# Altium schematic symbol library prism_mainboard.SchLib: 12 symbols
Pins are listed as number, name and electrical type; pins without a type are passive.

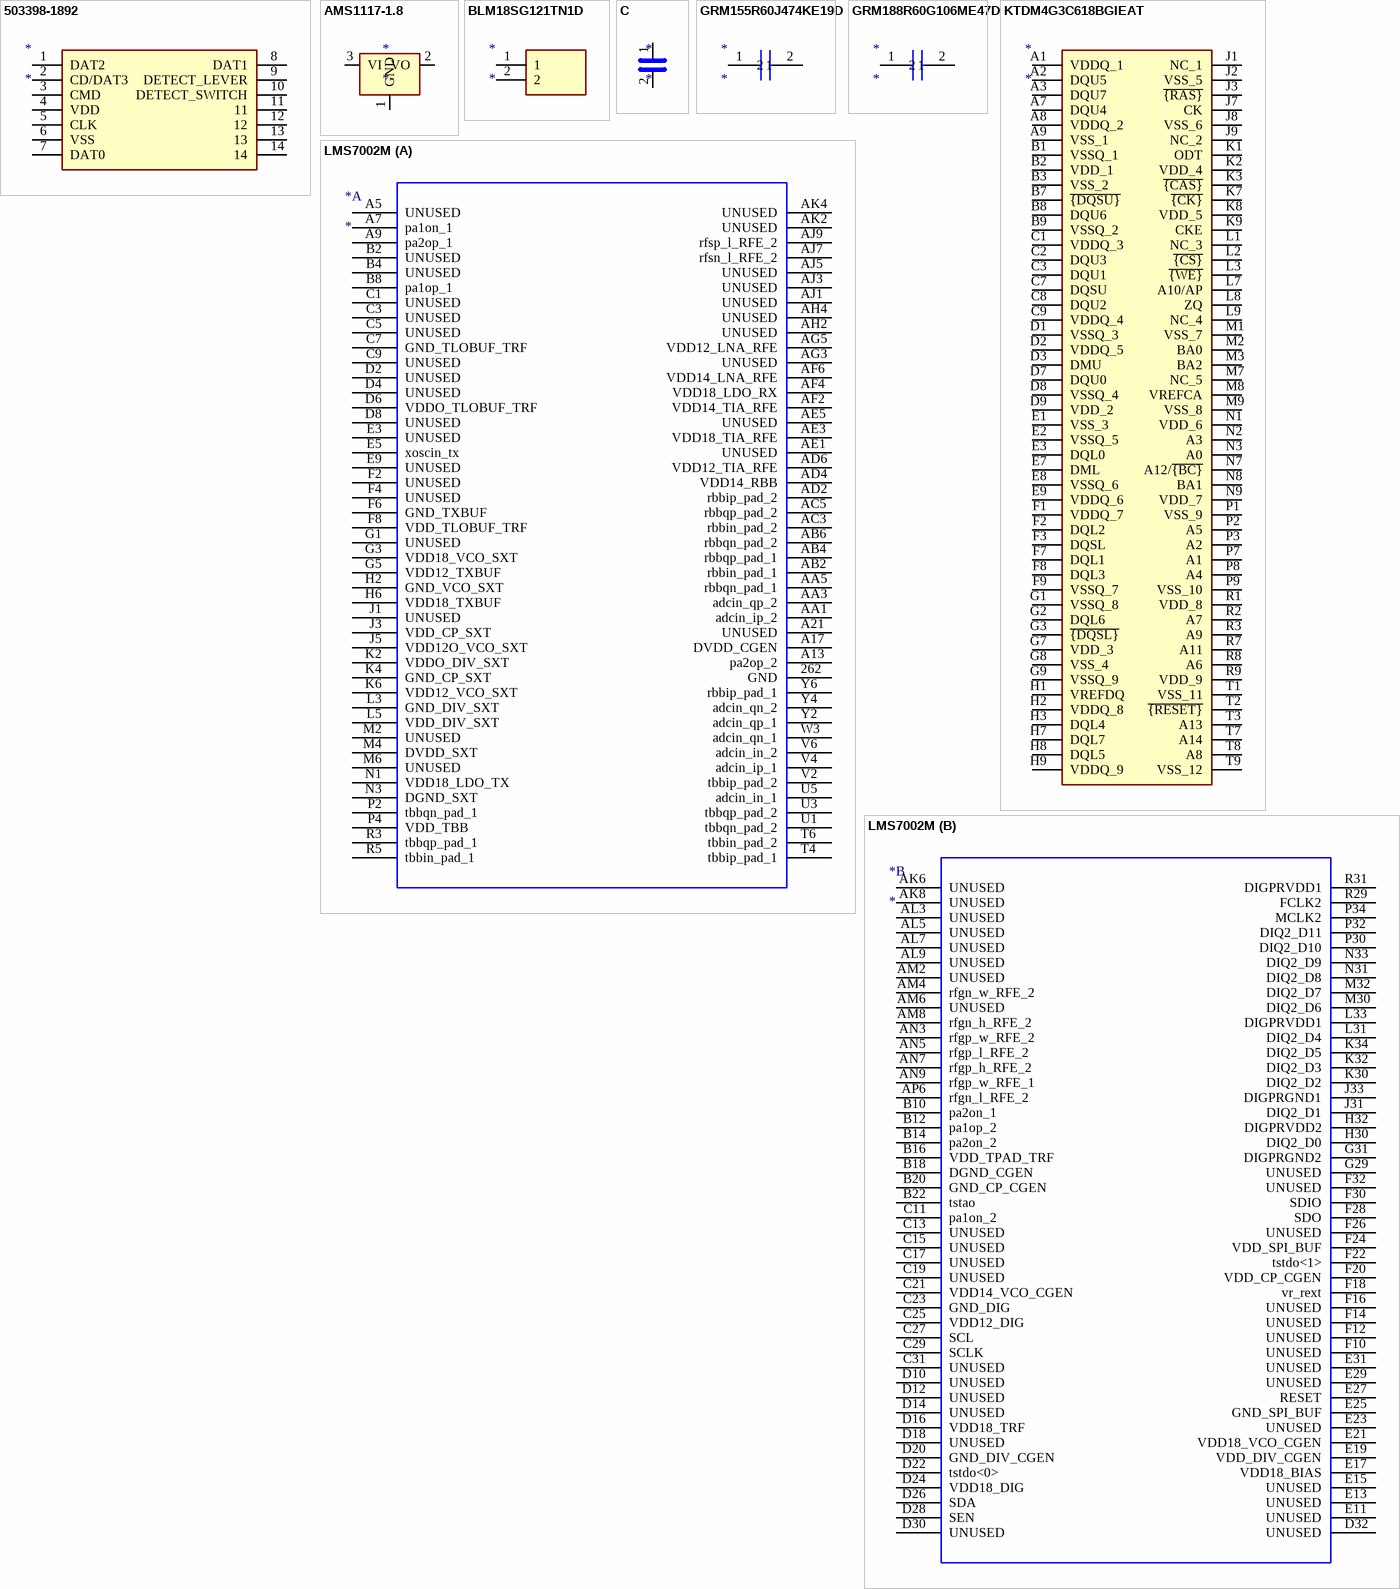
[diagram p0: symbols 503398-1892 to LMS7002M]

## 503398-1892
designator *
pins: 1 DAT2, 2 CD/DAT3, 3 CMD, 4 VDD, 5 CLK, 6 VSS, 7 DAT0, 8 DAT1, 9 DETECT_LEVER, 10 DETECT_SWITCH, 11, 12, 13, 14

## AMS1117-1.8
designator *
pins: 1 GND, 2 VO, 3 VI

## BLM18SG121TN1D
designator *
pins: 1, 2

## C
designator *
pins: 1, 2

## GRM155R60J474KE19D
designator *
pins: 1, 2

## GRM188R60G106ME47D
designator *
pins: 1, 2

## KTDM4G3C618BGIEAT
designator *
pins: A1 VDDQ_1, A2 DQU5, A3 DQU7, A7 DQU4, A8 VDDQ_2, A9 VSS_1, B1 VSSQ_1, B2 VDD_1, B3 VSS_2, B7 ~{{DQSU}}, B8 DQU6, B9 VSSQ_2, C1 VDDQ_3, C2 DQU3, C3 DQU1, C7 DQSU, C8 DQU2, C9 VDDQ_4, D1 VSSQ_3, D2 VDDQ_5, D3 DMU, D7 DQU0, D8 VSSQ_4, D9 VDD_2, E1 VSS_3, E2 VSSQ_5, E3 DQL0, E7 DML, E8 VSSQ_6, E9 VDDQ_6, F1 VDDQ_7, F2 DQL2, F3 DQSL, F7 DQL1, F8 DQL3, F9 VSSQ_7, G1 VSSQ_8, G2 DQL6, G3 ~{{DQSL}}, G7 VDD_3, G8 VSS_4, G9 VSSQ_9, H1 VREFDQ, H2 VDDQ_8, H3 DQL4, H7 DQL7, H8 DQL5, H9 VDDQ_9, J1 NC_1, J2 VSS_5, J3 ~{{RAS}}, J7 CK, J8 VSS_6, J9 NC_2, K1 ODT, K2 VDD_4, K3 ~{{CAS}}, K7 ~{{CK}}, K8 VDD_5, K9 CKE, L1 NC_3, L2 ~{{CS}}, L3 ~{{WE}}, L7 A10/AP, L8 ZQ, L9 NC_4, M1 VSS_7, M2 BA0, M3 BA2, M7 NC_5, M8 VREFCA, M9 VSS_8, N1 VDD_6, N2 A3, N3 A0, N7 A12/~{{BC}}, N8 BA1, N9 VDD_7, P1 VSS_9, P2 A5, P3 A2, P7 A1, P8 A4, P9 VSS_10, R1 VDD_8, R2 A7, R3 A9, R7 A11, R8 A6, R9 VDD_9, T1 VSS_11, T2 ~{{RESET}}, T3 A13, T7 A14, T8 A8, T9 VSS_12

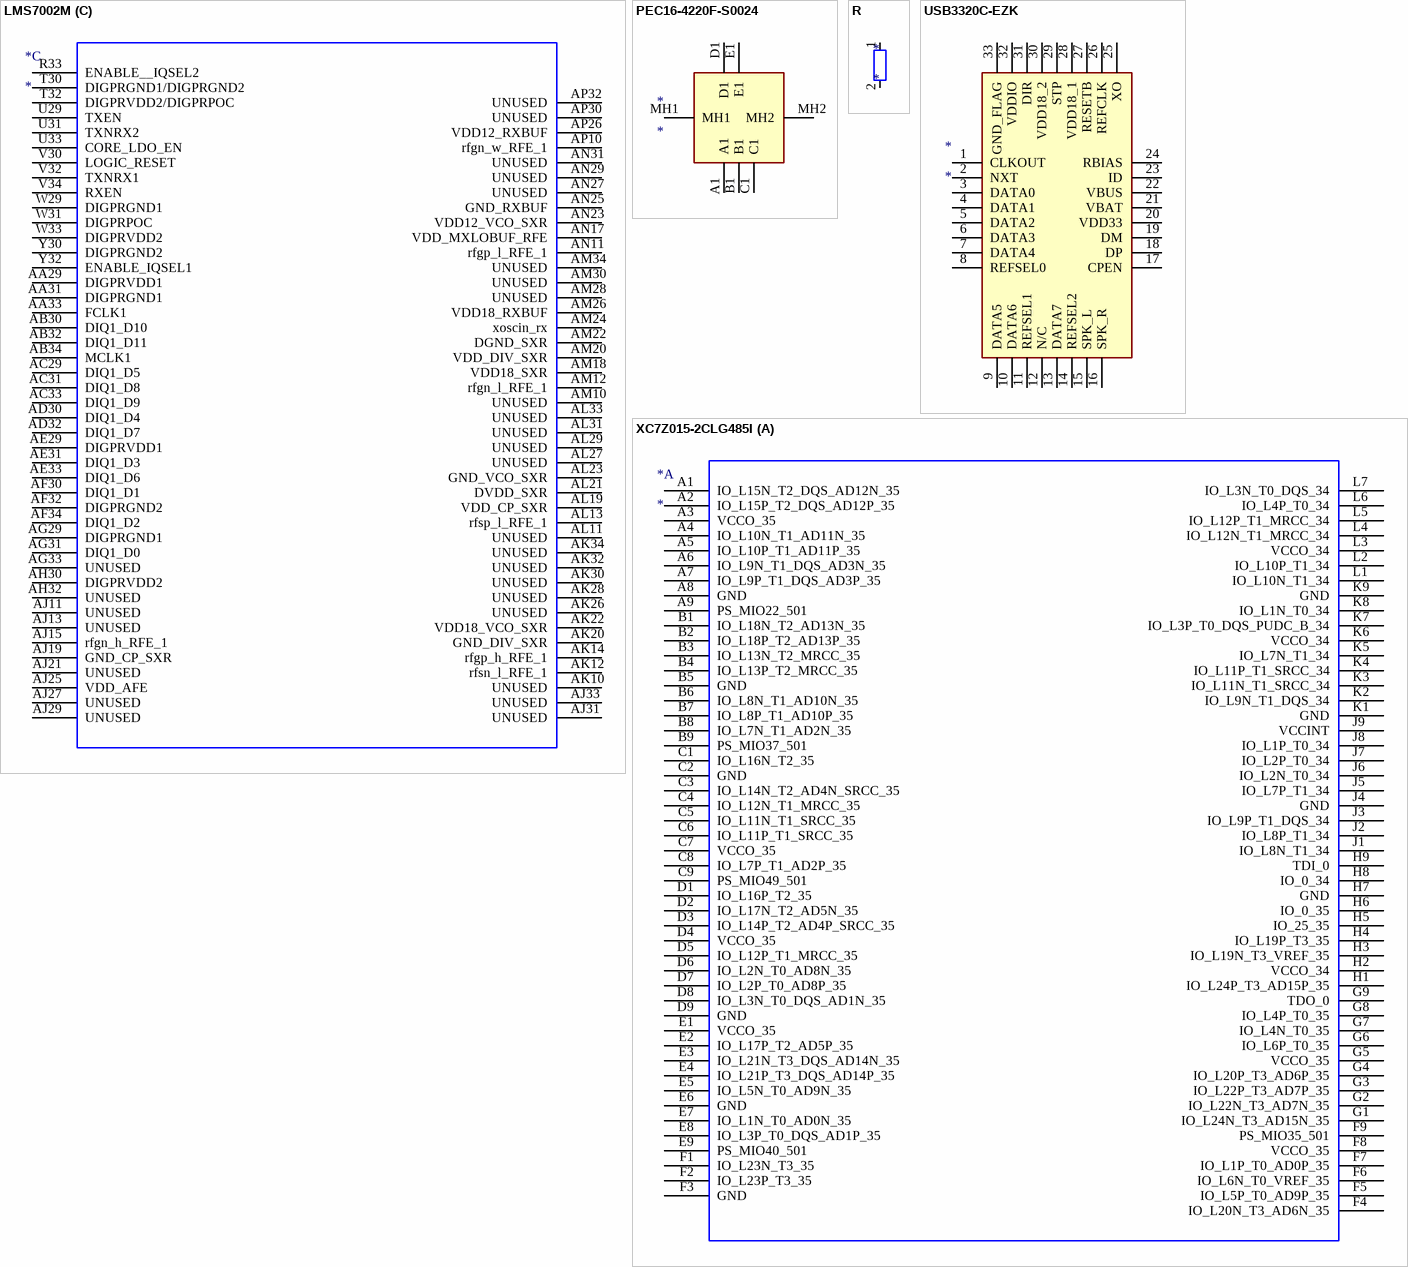
[diagram p1: symbols LMS7002M to XC7Z015-2CLG485I]

## LMS7002M
designator *
part A pins: 262 GND, A5 UNUSED, A7 pa1on_1, A9 pa2op_1, A13 pa2op_2, A17 DVDD_CGEN, A21 UNUSED, AA1 adcin_ip_2, AA3 adcin_qp_2, AA5 rbbqn_pad_1, AB2 rbbin_pad_1, AB4 rbbqp_pad_1, AB6 rbbqn_pad_2, AC3 rbbin_pad_2, AC5 rbbqp_pad_2, AD2 rbbip_pad_2, AD4 VDD14_RBB, AD6 VDD12_TIA_RFE, AE1 UNUSED, AE3 VDD18_TIA_RFE, AE5 UNUSED, AF2 VDD14_TIA_RFE, AF4 VDD18_LDO_RX, AF6 VDD14_LNA_RFE, AG3 UNUSED, AG5 VDD12_LNA_RFE, AH2 UNUSED, AH4 UNUSED, AJ1 UNUSED, AJ3 UNUSED, AJ5 UNUSED, AJ7 rfsn_l_RFE_2, AJ9 rfsp_l_RFE_2, AK2 UNUSED, AK4 UNUSED, B2 UNUSED, B4 UNUSED, B8 pa1op_1, C1 UNUSED, C3 UNUSED, C5 UNUSED, C7 GND_TLOBUF_TRF, C9 UNUSED, D2 UNUSED, D4 UNUSED, D6 VDDO_TLOBUF_TRF, D8 UNUSED, E3 UNUSED, E5 xoscin_tx, E9 UNUSED, F2 UNUSED, F4 UNUSED, F6 GND_TXBUF, F8 VDD_TLOBUF_TRF, G1 UNUSED, G3 VDD18_VCO_SXT, G5 VDD12_TXBUF, H2 GND_VCO_SXT, H6 VDD18_TXBUF, J1 UNUSED, J3 VDD_CP_SXT, J5 VDD12O_VCO_SXT, K2 VDDO_DIV_SXT, K4 GND_CP_SXT, K6 VDD12_VCO_SXT, L3 GND_DIV_SXT, L5 VDD_DIV_SXT, M2 UNUSED, M4 DVDD_SXT, M6 UNUSED, N1 VDD18_LDO_TX, N3 DGND_SXT, P2 tbbqn_pad_1, P4 VDD_TBB, R3 tbbqp_pad_1, R5 tbbin_pad_1, T4 tbbip_pad_1, T6 tbbin_pad_2, U1 tbbqn_pad_2, U3 tbbqp_pad_2, U5 adcin_in_1, V2 tbbip_pad_2, V4 adcin_ip_1, V6 adcin_in_2, W3 adcin_qn_1, Y2 adcin_qp_1, Y4 adcin_qn_2, Y6 rbbip_pad_1
part B pins: AK6 UNUSED, AK8 UNUSED, AL3 UNUSED, AL5 UNUSED, AL7 UNUSED, AL9 UNUSED, AM2 UNUSED, AM4 rfgn_w_RFE_2, AM6 UNUSED, AM8 rfgn_h_RFE_2, AN3 rfgp_w_RFE_2, AN5 rfgp_l_RFE_2, AN7 rfgp_h_RFE_2, AN9 rfgp_w_RFE_1, AP6 rfgn_l_RFE_2, B10 pa2on_1, B12 pa1op_2, B14 pa2on_2, B16 VDD_TPAD_TRF, B18 DGND_CGEN, B20 GND_CP_CGEN, B22 tstao, C11 pa1on_2, C13 UNUSED, C15 UNUSED, C17 UNUSED, C19 UNUSED, C21 VDD14_VCO_CGEN, C23 GND_DIG, C25 VDD12_DIG, C27 SCL, C29 SCLK, C31 UNUSED, D10 UNUSED, D12 UNUSED, D14 UNUSED, D16 VDD18_TRF, D18 UNUSED, D20 GND_DIV_CGEN, D22 tstdo<0>, D24 VDD18_DIG, D26 SDA, D28 SEN, D30 UNUSED, D32 UNUSED, E11 UNUSED, E13 UNUSED, E15 UNUSED, E17 VDD18_BIAS, E19 VDD_DIV_CGEN, E21 VDD18_VCO_CGEN, E23 UNUSED, E25 GND_SPI_BUF, E27 RESET, E29 UNUSED, E31 UNUSED, F10 UNUSED, F12 UNUSED, F14 UNUSED, F16 UNUSED, F18 vr_rext, F20 VDD_CP_CGEN, F22 tstdo<1>, F24 VDD_SPI_BUF, F26 UNUSED, F28 SDO, F30 SDIO, F32 UNUSED, G29 UNUSED, G31 DIGPRGND2, H30 DIQ2_D0, H32 DIGPRVDD2, J31 DIQ2_D1, J33 DIGPRGND1, K30 DIQ2_D2, K32 DIQ2_D3, K34 DIQ2_D5, L31 DIQ2_D4, L33 DIGPRVDD1, M30 DIQ2_D6, M32 DIQ2_D7, N31 DIQ2_D8, N33 DIQ2_D9, P30 DIQ2_D10, P32 DIQ2_D11, P34 MCLK2, R29 FCLK2, R31 DIGPRVDD1
part C pins: AA29 DIGPRVDD1, AA31 DIGPRGND1, AA33 FCLK1, AB30 DIQ1_D10, AB32 DIQ1_D11, AB34 MCLK1, AC29 DIQ1_D5, AC31 DIQ1_D8, AC33 DIQ1_D9, AD30 DIQ1_D4, AD32 DIQ1_D7, AE29 DIGPRVDD1, AE31 DIQ1_D3, AE33 DIQ1_D6, AF30 DIQ1_D1, AF32 DIGPRGND2, AF34 DIQ1_D2, AG29 DIGPRGND1, AG31 DIQ1_D0, AG33 UNUSED, AH30 DIGPRVDD2, AH32 UNUSED, AJ11 UNUSED, AJ13 UNUSED, AJ15 rfgn_h_RFE_1, AJ19 GND_CP_SXR, AJ21 UNUSED, AJ25 VDD_AFE, AJ27 UNUSED, AJ29 UNUSED, AJ31 UNUSED, AJ33 UNUSED, AK10 UNUSED, AK12 rfsn_l_RFE_1, AK14 rfgp_h_RFE_1, AK20 GND_DIV_SXR, AK22 VDD18_VCO_SXR, AK26 UNUSED, AK28 UNUSED, AK30 UNUSED, AK32 UNUSED, AK34 UNUSED, AL11 UNUSED, AL13 rfsp_l_RFE_1, AL19 VDD_CP_SXR, AL21 DVDD_SXR, AL23 GND_VCO_SXR, AL27 UNUSED, AL29 UNUSED, AL31 UNUSED, AL33 UNUSED, AM10 UNUSED, AM12 rfgn_l_RFE_1, AM18 VDD18_SXR, AM20 VDD_DIV_SXR, AM22 DGND_SXR, AM24 xoscin_rx, AM26 VDD18_RXBUF, AM28 UNUSED, AM30 UNUSED, AM34 UNUSED, AN11 rfgp_l_RFE_1, AN17 VDD_MXLOBUF_RFE, AN23 VDD12_VCO_SXR, AN25 GND_RXBUF, AN27 UNUSED, AN29 UNUSED, AN31 UNUSED, AP10 rfgn_w_RFE_1, AP26 VDD12_RXBUF, AP30 UNUSED, AP32 UNUSED, R33 ENABLE__IQSEL2, T30 DIGPRGND1/DIGPRGND2, T32 DIGPRVDD2/DIGPRPOC, U29 TXEN, U31 TXNRX2, U33 CORE_LDO_EN, V30 LOGIC_RESET, V32 TXNRX1, V34 RXEN, W29 DIGPRGND1, W31 DIGPRPOC, W33 DIGPRVDD2, Y30 DIGPRGND2, Y32 ENABLE_IQSEL1

## PEC16-4220F-S0024
designator *
pins: A1, B1, C1, D1, E1, MH1, MH2

## R
designator *
pins: 1, 2

## USB3320C-EZK
designator *
pins: 1 CLKOUT, 2 NXT, 3 DATA0, 4 DATA1, 5 DATA2, 6 DATA3, 7 DATA4, 8 REFSEL0, 9 DATA5, 10 DATA6, 11 REFSEL1, 12 N/C, 13 DATA7, 14 REFSEL2, 15 SPK_L, 16 SPK_R, 17 CPEN, 18 DP, 19 DM, 20 VDD33, 21 VBAT, 22 VBUS, 23 ID, 24 RBIAS, 25 XO, 26 REFCLK, 27 RESETB, 28 VDD18_1, 29 STP, 30 VDD18_2, 31 DIR, 32 VDDIO, 33 GND_FLAG

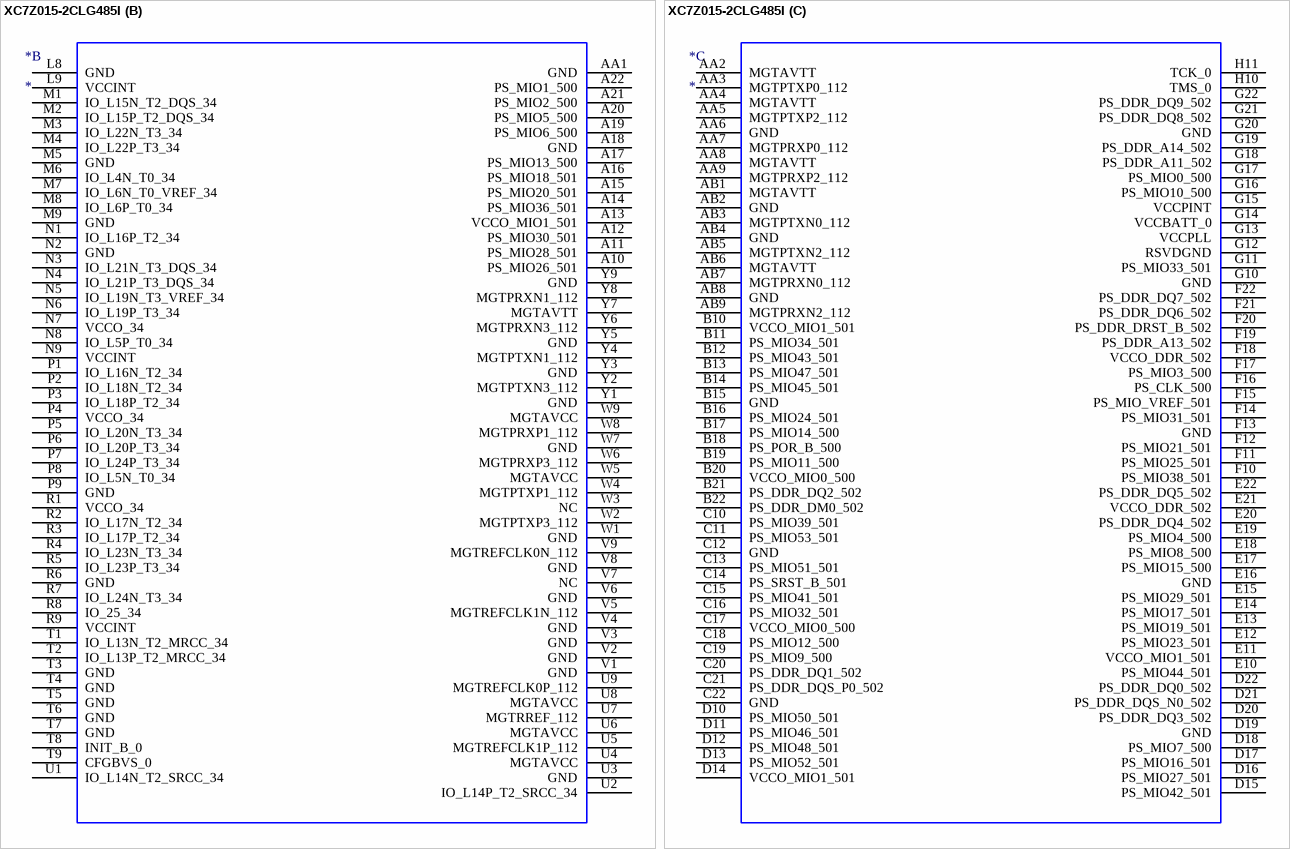
[diagram p2: symbol XC7Z015-2CLG485I]

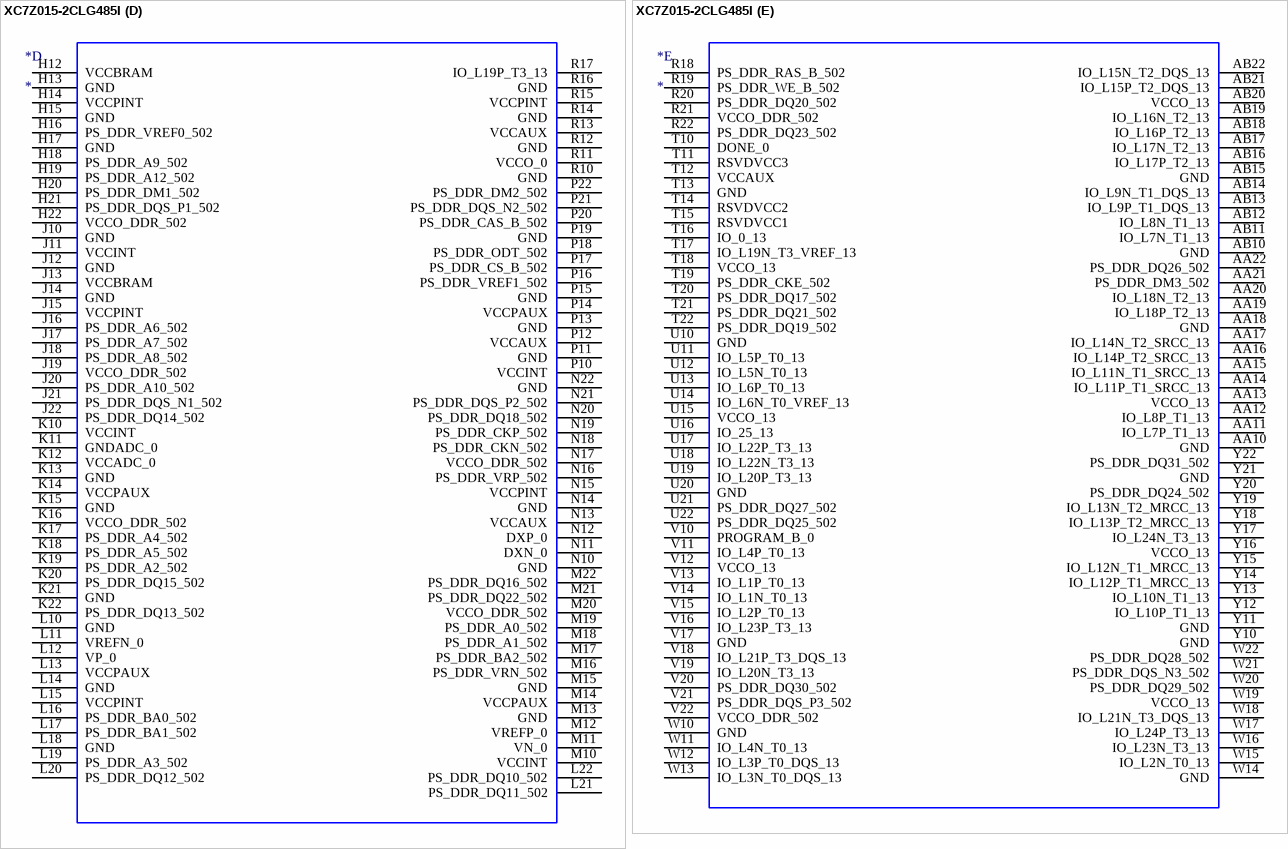
[diagram p3: symbol XC7Z015-2CLG485I]

## XC7Z015-2CLG485I
designator *
part A pins: A1 IO_L15N_T2_DQS_AD12N_35, A2 IO_L15P_T2_DQS_AD12P_35, A3 VCCO_35, A4 IO_L10N_T1_AD11N_35, A5 IO_L10P_T1_AD11P_35, A6 IO_L9N_T1_DQS_AD3N_35, A7 IO_L9P_T1_DQS_AD3P_35, A8 GND, A9 PS_MIO22_501, B1 IO_L18N_T2_AD13N_35, B2 IO_L18P_T2_AD13P_35, B3 IO_L13N_T2_MRCC_35, B4 IO_L13P_T2_MRCC_35, B5 GND, B6 IO_L8N_T1_AD10N_35, B7 IO_L8P_T1_AD10P_35, B8 IO_L7N_T1_AD2N_35, B9 PS_MIO37_501, C1 IO_L16N_T2_35, C2 GND, C3 IO_L14N_T2_AD4N_SRCC_35, C4 IO_L12N_T1_MRCC_35, C5 IO_L11N_T1_SRCC_35, C6 IO_L11P_T1_SRCC_35, C7 VCCO_35, C8 IO_L7P_T1_AD2P_35, C9 PS_MIO49_501, D1 IO_L16P_T2_35, D2 IO_L17N_T2_AD5N_35, D3 IO_L14P_T2_AD4P_SRCC_35, D4 VCCO_35, D5 IO_L12P_T1_MRCC_35, D6 IO_L2N_T0_AD8N_35, D7 IO_L2P_T0_AD8P_35, D8 IO_L3N_T0_DQS_AD1N_35, D9 GND, E1 VCCO_35, E2 IO_L17P_T2_AD5P_35, E3 IO_L21N_T3_DQS_AD14N_35, E4 IO_L21P_T3_DQS_AD14P_35, E5 IO_L5N_T0_AD9N_35, E6 GND, E7 IO_L1N_T0_AD0N_35, E8 IO_L3P_T0_DQS_AD1P_35, E9 PS_MIO40_501, F1 IO_L23N_T3_35, F2 IO_L23P_T3_35, F3 GND, F4 IO_L20N_T3_AD6N_35, F5 IO_L5P_T0_AD9P_35, F6 IO_L6N_T0_VREF_35, F7 IO_L1P_T0_AD0P_35, F8 VCCO_35, F9 PS_MIO35_501, G1 IO_L24N_T3_AD15N_35, G2 IO_L22N_T3_AD7N_35, G3 IO_L22P_T3_AD7P_35, G4 IO_L20P_T3_AD6P_35, G5 VCCO_35, G6 IO_L6P_T0_35, G7 IO_L4N_T0_35, G8 IO_L4P_T0_35, G9 TDO_0, H1 IO_L24P_T3_AD15P_35, H2 VCCO_34, H3 IO_L19N_T3_VREF_35, H4 IO_L19P_T3_35, H5 IO_25_35, H6 IO_0_35, H7 GND, H8 IO_0_34, H9 TDI_0, J1 IO_L8N_T1_34, J2 IO_L8P_T1_34, J3 IO_L9P_T1_DQS_34, J4 GND, J5 IO_L7P_T1_34, J6 IO_L2N_T0_34, J7 IO_L2P_T0_34, J8 IO_L1P_T0_34, J9 VCCINT, K1 GND, K2 IO_L9N_T1_DQS_34, K3 IO_L11N_T1_SRCC_34, K4 IO_L11P_T1_SRCC_34, K5 IO_L7N_T1_34, K6 VCCO_34, K7 IO_L3P_T0_DQS_PUDC_B_34, K8 IO_L1N_T0_34, K9 GND, L1 IO_L10N_T1_34, L2 IO_L10P_T1_34, L3 VCCO_34, L4 IO_L12N_T1_MRCC_34, L5 IO_L12P_T1_MRCC_34, L6 IO_L4P_T0_34, L7 IO_L3N_T0_DQS_34
part B pins: A10 PS_MIO26_501, A11 PS_MIO28_501, A12 PS_MIO30_501, A13 VCCO_MIO1_501, A14 PS_MIO36_501, A15 PS_MIO20_501, A16 PS_MIO18_501, A17 PS_MIO13_500, A18 GND, A19 PS_MIO6_500, A20 PS_MIO5_500, A21 PS_MIO2_500, A22 PS_MIO1_500, AA1 GND, L8 GND, L9 VCCINT, M1 IO_L15N_T2_DQS_34, M2 IO_L15P_T2_DQS_34, M3 IO_L22N_T3_34, M4 IO_L22P_T3_34, M5 GND, M6 IO_L4N_T0_34, M7 IO_L6N_T0_VREF_34, M8 IO_L6P_T0_34, M9 GND, N1 IO_L16P_T2_34, N2 GND, N3 IO_L21N_T3_DQS_34, N4 IO_L21P_T3_DQS_34, N5 IO_L19N_T3_VREF_34, N6 IO_L19P_T3_34, N7 VCCO_34, N8 IO_L5P_T0_34, N9 VCCINT, P1 IO_L16N_T2_34, P2 IO_L18N_T2_34, P3 IO_L18P_T2_34, P4 VCCO_34, P5 IO_L20N_T3_34, P6 IO_L20P_T3_34, P7 IO_L24P_T3_34, P8 IO_L5N_T0_34, P9 GND, R1 VCCO_34, R2 IO_L17N_T2_34, R3 IO_L17P_T2_34, R4 IO_L23N_T3_34, R5 IO_L23P_T3_34, R6 GND, R7 IO_L24N_T3_34, R8 IO_25_34, R9 VCCINT, T1 IO_L13N_T2_MRCC_34, T2 IO_L13P_T2_MRCC_34, T3 GND, T4 GND, T5 GND, T6 GND, T7 GND, T8 INIT_B_0, T9 CFGBVS_0, U1 IO_L14N_T2_SRCC_34, U2 IO_L14P_T2_SRCC_34, U3 GND, U4 MGTAVCC, U5 MGTREFCLK1P_112, U6 MGTAVCC, U7 MGTRREF_112, U8 MGTAVCC, U9 MGTREFCLK0P_112, V1 GND, V2 GND, V3 GND, V4 GND, V5 MGTREFCLK1N_112, V6 GND, V7 NC, V8 GND, V9 MGTREFCLK0N_112, W1 GND, W2 MGTPTXP3_112, W3 NC, W4 MGTPTXP1_112, W5 MGTAVCC, W6 MGTPRXP3_112, W7 GND, W8 MGTPRXP1_112, W9 MGTAVCC, Y1 GND, Y2 MGTPTXN3_112, Y3 GND, Y4 MGTPTXN1_112, Y5 GND, Y6 MGTPRXN3_112, Y7 MGTAVTT, Y8 MGTPRXN1_112, Y9 GND
part C pins: AA2 MGTAVTT, AA3 MGTPTXP0_112, AA4 MGTAVTT, AA5 MGTPTXP2_112, AA6 GND, AA7 MGTPRXP0_112, AA8 MGTAVTT, AA9 MGTPRXP2_112, AB1 MGTAVTT, AB2 GND, AB3 MGTPTXN0_112, AB4 GND, AB5 MGTPTXN2_112, AB6 MGTAVTT, AB7 MGTPRXN0_112, AB8 GND, AB9 MGTPRXN2_112, B10 VCCO_MIO1_501, B11 PS_MIO34_501, B12 PS_MIO43_501, B13 PS_MIO47_501, B14 PS_MIO45_501, B15 GND, B16 PS_MIO24_501, B17 PS_MIO14_500, B18 PS_POR_B_500, B19 PS_MIO11_500, B20 VCCO_MIO0_500, B21 PS_DDR_DQ2_502, B22 PS_DDR_DM0_502, C10 PS_MIO39_501, C11 PS_MIO53_501, C12 GND, C13 PS_MIO51_501, C14 PS_SRST_B_501, C15 PS_MIO41_501, C16 PS_MIO32_501, C17 VCCO_MIO0_500, C18 PS_MIO12_500, C19 PS_MIO9_500, C20 PS_DDR_DQ1_502, C21 PS_DDR_DQS_P0_502, C22 GND, D10 PS_MIO50_501, D11 PS_MIO46_501, D12 PS_MIO48_501, D13 PS_MIO52_501, D14 VCCO_MIO1_501, D15 PS_MIO42_501, D16 PS_MIO27_501, D17 PS_MIO16_501, D18 PS_MIO7_500, D19 GND, D20 PS_DDR_DQ3_502, D21 PS_DDR_DQS_N0_502, D22 PS_DDR_DQ0_502, E10 PS_MIO44_501, E11 VCCO_MIO1_501, E12 PS_MIO23_501, E13 PS_MIO19_501, E14 PS_MIO17_501, E15 PS_MIO29_501, E16 GND, E17 PS_MIO15_500, E18 PS_MIO8_500, E19 PS_MIO4_500, E20 PS_DDR_DQ4_502, E21 VCCO_DDR_502, E22 PS_DDR_DQ5_502, F10 PS_MIO38_501, F11 PS_MIO25_501, F12 PS_MIO21_501, F13 GND, F14 PS_MIO31_501, F15 PS_MIO_VREF_501, F16 PS_CLK_500, F17 PS_MIO3_500, F18 VCCO_DDR_502, F19 PS_DDR_A13_502, F20 PS_DDR_DRST_B_502, F21 PS_DDR_DQ6_502, F22 PS_DDR_DQ7_502, G10 GND, G11 PS_MIO33_501, G12 RSVDGND, G13 VCCPLL, G14 VCCBATT_0, G15 VCCPINT, G16 PS_MIO10_500, G17 PS_MIO0_500, G18 PS_DDR_A11_502, G19 PS_DDR_A14_502, G20 GND, G21 PS_DDR_DQ8_502, G22 PS_DDR_DQ9_502, H10 TMS_0, H11 TCK_0
part D pins: H12 VCCBRAM, H13 GND, H14 VCCPINT, H15 GND, H16 PS_DDR_VREF0_502, H17 GND, H18 PS_DDR_A9_502, H19 PS_DDR_A12_502, H20 PS_DDR_DM1_502, H21 PS_DDR_DQS_P1_502, H22 VCCO_DDR_502, J10 GND, J11 VCCINT, J12 GND, J13 VCCBRAM, J14 GND, J15 VCCPINT, J16 PS_DDR_A6_502, J17 PS_DDR_A7_502, J18 PS_DDR_A8_502, J19 VCCO_DDR_502, J20 PS_DDR_A10_502, J21 PS_DDR_DQS_N1_502, J22 PS_DDR_DQ14_502, K10 VCCINT, K11 GNDADC_0, K12 VCCADC_0, K13 GND, K14 VCCPAUX, K15 GND, K16 VCCO_DDR_502, K17 PS_DDR_A4_502, K18 PS_DDR_A5_502, K19 PS_DDR_A2_502, K20 PS_DDR_DQ15_502, K21 GND, K22 PS_DDR_DQ13_502, L10 GND, L11 VREFN_0, L12 VP_0, L13 VCCPAUX, L14 GND, L15 VCCPINT, L16 PS_DDR_BA0_502, L17 PS_DDR_BA1_502, L18 GND, L19 PS_DDR_A3_502, L20 PS_DDR_DQ12_502, L21 PS_DDR_DQ11_502, L22 PS_DDR_DQ10_502, M10 VCCINT, M11 VN_0, M12 VREFP_0, M13 GND, M14 VCCPAUX, M15 GND, M16 PS_DDR_VRN_502, M17 PS_DDR_BA2_502, M18 PS_DDR_A1_502, M19 PS_DDR_A0_502, M20 VCCO_DDR_502, M21 PS_DDR_DQ22_502, M22 PS_DDR_DQ16_502, N10 GND, N11 DXN_0, N12 DXP_0, N13 VCCAUX, N14 GND, N15 VCCPINT, N16 PS_DDR_VRP_502, N17 VCCO_DDR_502, N18 PS_DDR_CKN_502, N19 PS_DDR_CKP_502, N20 PS_DDR_DQ18_502, N21 PS_DDR_DQS_P2_502, N22 GND, P10 VCCINT, P11 GND, P12 VCCAUX, P13 GND, P14 VCCPAUX, P15 GND, P16 PS_DDR_VREF1_502, P17 PS_DDR_CS_B_502, P18 PS_DDR_ODT_502, P19 GND, P20 PS_DDR_CAS_B_502, P21 PS_DDR_DQS_N2_502, P22 PS_DDR_DM2_502, R10 GND, R11 VCCO_0, R12 GND, R13 VCCAUX, R14 GND, R15 VCCPINT, R16 GND, R17 IO_L19P_T3_13
part E pins: AA10 GND, AA11 IO_L7P_T1_13, AA12 IO_L8P_T1_13, AA13 VCCO_13, AA14 IO_L11P_T1_SRCC_13, AA15 IO_L11N_T1_SRCC_13, AA16 IO_L14P_T2_SRCC_13, AA17 IO_L14N_T2_SRCC_13, AA18 GND, AA19 IO_L18P_T2_13, AA20 IO_L18N_T2_13, AA21 PS_DDR_DM3_502, AA22 PS_DDR_DQ26_502, AB10 GND, AB11 IO_L7N_T1_13, AB12 IO_L8N_T1_13, AB13 IO_L9P_T1_DQS_13, AB14 IO_L9N_T1_DQS_13, AB15 GND, AB16 IO_L17P_T2_13, AB17 IO_L17N_T2_13, AB18 IO_L16P_T2_13, AB19 IO_L16N_T2_13, AB20 VCCO_13, AB21 IO_L15P_T2_DQS_13, AB22 IO_L15N_T2_DQS_13, R18 PS_DDR_RAS_B_502, R19 PS_DDR_WE_B_502, R20 PS_DDR_DQ20_502, R21 VCCO_DDR_502, R22 PS_DDR_DQ23_502, T10 DONE_0, T11 RSVDVCC3, T12 VCCAUX, T13 GND, T14 RSVDVCC2, T15 RSVDVCC1, T16 IO_0_13, T17 IO_L19N_T3_VREF_13, T18 VCCO_13, T19 PS_DDR_CKE_502, T20 PS_DDR_DQ17_502, T21 PS_DDR_DQ21_502, T22 PS_DDR_DQ19_502, U10 GND, U11 IO_L5P_T0_13, U12 IO_L5N_T0_13, U13 IO_L6P_T0_13, U14 IO_L6N_T0_VREF_13, U15 VCCO_13, U16 IO_25_13, U17 IO_L22P_T3_13, U18 IO_L22N_T3_13, U19 IO_L20P_T3_13, U20 GND, U21 PS_DDR_DQ27_502, U22 PS_DDR_DQ25_502, V10 PROGRAM_B_0, V11 IO_L4P_T0_13, V12 VCCO_13, V13 IO_L1P_T0_13, V14 IO_L1N_T0_13, V15 IO_L2P_T0_13, V16 IO_L23P_T3_13, V17 GND, V18 IO_L21P_T3_DQS_13, V19 IO_L20N_T3_13, V20 PS_DDR_DQ30_502, V21 PS_DDR_DQS_P3_502, V22 VCCO_DDR_502, W10 GND, W11 IO_L4N_T0_13, W12 IO_L3P_T0_DQS_13, W13 IO_L3N_T0_DQS_13, W14 GND, W15 IO_L2N_T0_13, W16 IO_L23N_T3_13, W17 IO_L24P_T3_13, W18 IO_L21N_T3_DQS_13, W19 VCCO_13, W20 PS_DDR_DQ29_502, W21 PS_DDR_DQS_N3_502, W22 PS_DDR_DQ28_502, Y10 GND, Y11 GND, Y12 IO_L10P_T1_13, Y13 IO_L10N_T1_13, Y14 IO_L12P_T1_MRCC_13, Y15 IO_L12N_T1_MRCC_13, Y16 VCCO_13, Y17 IO_L24N_T3_13, Y18 IO_L13P_T2_MRCC_13, Y19 IO_L13N_T2_MRCC_13, Y20 PS_DDR_DQ24_502, Y21 GND, Y22 PS_DDR_DQ31_502